# EAGLE library part HMC541LP3 (library microwave)
10 dB GaAs MMIC 1-BIT DIGITAL POSITIVE CONTROL ATTENUATOR, DC - 5.0 GHz Source: Source: www.hittite.com .. hmc492lp3.pdf
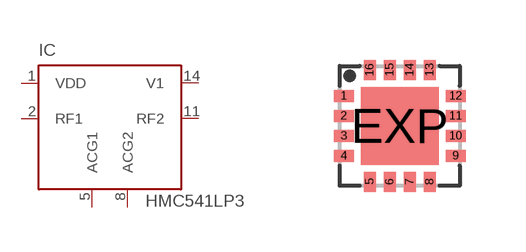
[diagram p3: symbol with the pads of QFN16; footprint QFN16]

Designator prefix IC

## HMC541LP3  [QFN16]
1  VDD  in
2  RF1  in
5  ACG1  in
8  ACG2  in
11  RF2  in
14  V1  in

## Footprint QFN16 (pad centres in mm)
QFN 16 3x3 mm Source: www.hittite.com .. hmc492lp3.pdf
smd 0.5 x 0.3: 1 -1.4,0.75; 2 -1.4,0.25; 3 -1.4,-0.25; 4 -1.4,-0.75; 9 1.4,-0.75; 10 1.4,-0.25; 11 1.4,0.25; 12 1.4,0.75
smd 0.3 x 0.5: 5 -0.75,-1.4; 6 -0.25,-1.4; 7 0.25,-1.4; 8 0.75,-1.4; 13 0.75,1.4; 14 0.25,1.4; 15 -0.25,1.4; 16 -0.75,1.4
smd 1.95 x 1.95: EXP 0,0